# Altium schematic symbol library Buffer.SchLib: 1 symbol
Pins are listed as number, name and electrical type; pins without a type are passive.

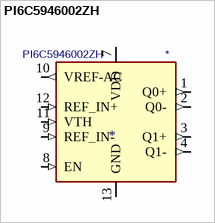
[diagram p0: symbol PI6C5946002ZH]

## PI6C5946002ZH
designator *  value PI6C5946002ZH
ki_keywords: buffer clock data; ki_description: 6 GHz / 12 Gbps Clock / Data 1:2 Fanout Buffer with Internal Termination, TQFN-16; ki_fp_filters: TQFN*1EP*3x3mm*P0.5mm*; Footprint: Package_DFN_QFN:TQFN-16-1EP_3x3mm_P0.5mm_EP1.6x1.6mm; Supplier: https://www.diodes.com/assets/Datasheets/PI6C5946002.pdf
footprint TQFN-16-1EP_3x3mm_P0.5mm_EP1.6x1.6mm
pins: 1 Q0+ (out), 2 Q0- (out), 3 Q1+ (out), 4 Q1- (out), 5 DNC (in) hidden, 6 DNC (in) hidden, 7 VDD (power), 8 EN (in), 9 REF_IN- (in), 10 VREF-AC (out), 11 VTH (in), 12 REF_IN+ (in), 13 GND (power), 14 VDD hidden, 15 DNC (in) hidden, 16 DNC (in) hidden, 17 GND hidden